# EAGLE library part MSP430FR5994IPNR (library Simplex-ICs)
msp430fr5994ipnr
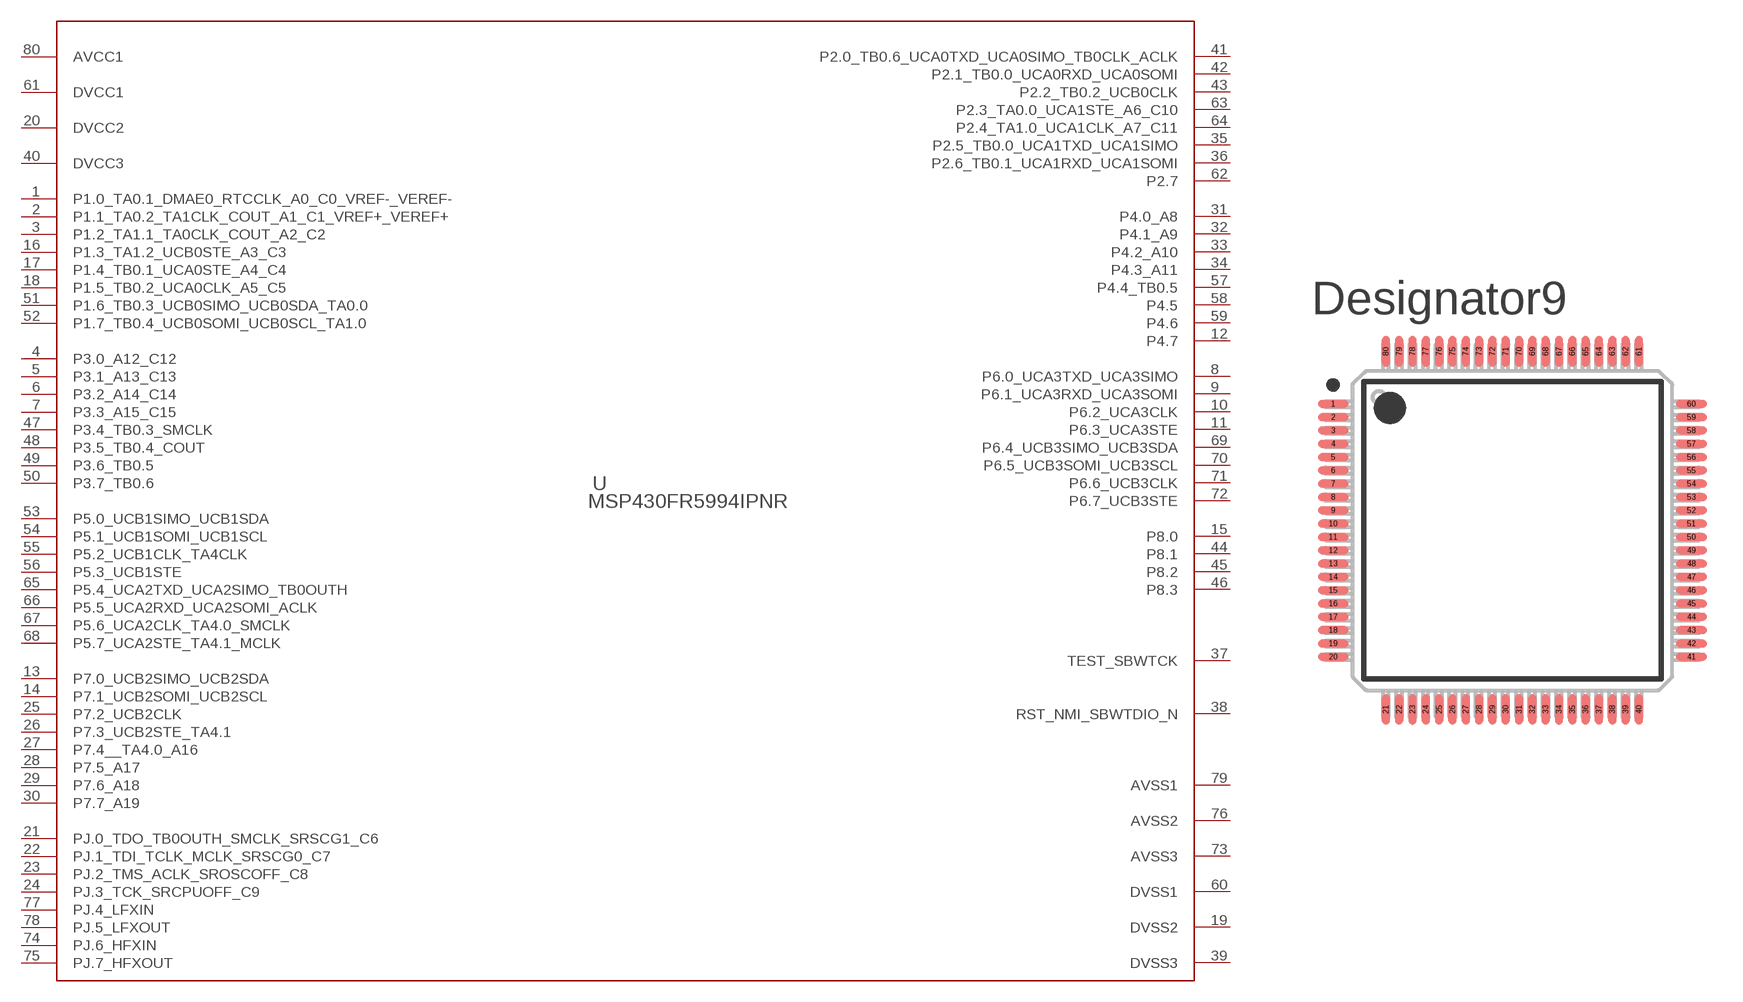
[diagram p18: symbol with the pads of PN0080A_N; footprint PN0080A_N]

Designator prefix U

## MSP430FR5994IPNR (MANUFACTURER: Texas Instruments; PARTNUMBER: MSP430FR5994IPNR; REFDES: RefDes; TYPE: TYPE; VALUE: Value)  [PN0080A_N]
1  P1.0_TA0.1_DMAE0_RTCCLK_A0_C0_VREF-_VEREF-
2  P1.1_TA0.2_TA1CLK_COUT_A1_C1_VREF+_VEREF+
3  P1.2_TA1.1_TA0CLK_COUT_A2_C2
4  P3.0_A12_C12
5  P3.1_A13_C13
6  P3.2_A14_C14
7  P3.3_A15_C15
8  P6.0_UCA3TXD_UCA3SIMO
9  P6.1_UCA3RXD_UCA3SOMI
10  P6.2_UCA3CLK
11  P6.3_UCA3STE
12  P4.7
13  P7.0_UCB2SIMO_UCB2SDA
14  P7.1_UCB2SOMI_UCB2SCL
15  P8.0
16  P1.3_TA1.2_UCB0STE_A3_C3
17  P1.4_TB0.1_UCA0STE_A4_C4
18  P1.5_TB0.2_UCA0CLK_A5_C5
19  DVSS2  pwr
20  DVCC2  pwr
21  PJ.0_TDO_TB0OUTH_SMCLK_SRSCG1_C6
22  PJ.1_TDI_TCLK_MCLK_SRSCG0_C7
23  PJ.2_TMS_ACLK_SROSCOFF_C8
24  PJ.3_TCK_SRCPUOFF_C9
25  P7.2_UCB2CLK
26  P7.3_UCB2STE_TA4.1
27  P7.4__TA4.0_A16
28  P7.5_A17
29  P7.6_A18
30  P7.7_A19
31  P4.0_A8
32  P4.1_A9
33  P4.2_A10
34  P4.3_A11
35  P2.5_TB0.0_UCA1TXD_UCA1SIMO
36  P2.6_TB0.1_UCA1RXD_UCA1SOMI
37  TEST_SBWTCK  in
38  RST_NMI_SBWTDIO_N
39  DVSS3  pwr
40  DVCC3  pwr
41  P2.0_TB0.6_UCA0TXD_UCA0SIMO_TB0CLK_ACLK
42  P2.1_TB0.0_UCA0RXD_UCA0SOMI
43  P2.2_TB0.2_UCB0CLK
44  P8.1
45  P8.2
46  P8.3
47  P3.4_TB0.3_SMCLK
48  P3.5_TB0.4_COUT
49  P3.6_TB0.5
50  P3.7_TB0.6
51  P1.6_TB0.3_UCB0SIMO_UCB0SDA_TA0.0
52  P1.7_TB0.4_UCB0SOMI_UCB0SCL_TA1.0
53  P5.0_UCB1SIMO_UCB1SDA
54  P5.1_UCB1SOMI_UCB1SCL
55  P5.2_UCB1CLK_TA4CLK
56  P5.3_UCB1STE
57  P4.4_TB0.5
58  P4.5
59  P4.6
60  DVSS1  pwr
61  DVCC1  pwr
62  P2.7
63  P2.3_TA0.0_UCA1STE_A6_C10
64  P2.4_TA1.0_UCA1CLK_A7_C11
65  P5.4_UCA2TXD_UCA2SIMO_TB0OUTH
66  P5.5_UCA2RXD_UCA2SOMI_ACLK
67  P5.6_UCA2CLK_TA4.0_SMCLK
68  P5.7_UCA2STE_TA4.1_MCLK
69  P6.4_UCB3SIMO_UCB3SDA
70  P6.5_UCB3SOMI_UCB3SCL
71  P6.6_UCB3CLK
72  P6.7_UCB3STE
73  AVSS3  pwr
74  PJ.6_HFXIN
75  PJ.7_HFXOUT
76  AVSS2  pwr
77  PJ.4_LFXIN
78  PJ.5_LFXOUT
79  AVSS1  pwr
80  AVCC1  pwr

## Footprint PN0080A_N (pad centres in mm)
smd 1.15 x 0.3: 1 -6.725,4.75; 2 -6.725,4.25; 3 -6.725,3.75; 4 -6.725,3.25; 5 -6.725,2.75; 6 -6.725,2.25; 7 -6.725,1.75; 8 -6.725,1.25; 9 -6.725,0.75; 10 -6.725,0.25; 11 -6.725,-0.25; 12 -6.725,-0.75; 13 -6.725,-1.25; 14 -6.725,-1.75; 15 -6.725,-2.25; 16 -6.725,-2.75; 17 -6.725,-3.25; 18 -6.725,-3.75; 19 -6.725,-4.25; 20 -6.725,-4.75; 41 6.725,-4.75; 42 6.725,-4.25; 43 6.725,-3.75; 44 6.725,-3.25; 45 6.725,-2.75; 46 6.725,-2.25; 47 6.725,-1.75; 48 6.725,-1.25; 49 6.725,-0.75; 50 6.725,-0.25; 51 6.725,0.25; 52 6.725,0.75; 53 6.725,1.25; 54 6.725,1.75; 55 6.725,2.25; 56 6.725,2.75; 57 6.725,3.25; 58 6.725,3.75; 59 6.725,4.25; 60 6.725,4.75
smd 0.3 x 1.15: 21 -4.75,-6.725; 22 -4.25,-6.725; 23 -3.75,-6.725; 24 -3.25,-6.725; 25 -2.75,-6.725; 26 -2.25,-6.725; 27 -1.75,-6.725; 28 -1.25,-6.725; 29 -0.75,-6.725; 30 -0.25,-6.725; 31 0.25,-6.725; 32 0.75,-6.725; 33 1.25,-6.725; 34 1.75,-6.725; 35 2.25,-6.725; 36 2.75,-6.725; 37 3.25,-6.725; 38 3.75,-6.725; 39 4.25,-6.725; 40 4.75,-6.725; 61 4.75,6.725; 62 4.25,6.725; 63 3.75,6.725; 64 3.25,6.725; 65 2.75,6.725; 66 2.25,6.725; 67 1.75,6.725; 68 1.25,6.725; 69 0.75,6.725; 70 0.25,6.725; 71 -0.25,6.725; 72 -0.75,6.725; 73 -1.25,6.725; 74 -1.75,6.725; 75 -2.25,6.725; 76 -2.75,6.725; 77 -3.25,6.725; 78 -3.75,6.725; 79 -4.25,6.725; 80 -4.75,6.725